# Altium schematic symbol library SCH - RELAY - DPDT - OMRON G6K-2F.SCHLIB: 1 symbol
Pins are listed as number, name and electrical type; pins without a type are passive.

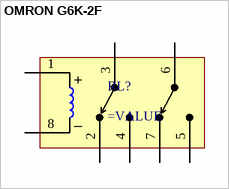
[diagram p0: symbol OMRON G6K-2F]

## OMRON G6K-2F
designator RL?
pins: 1, 2, 3, 4, 5, 6, 7, 8
1 alternate drawing of the same symbol
text: +; –